# Altium footprint library u1.PcbLib: 1 footprints
Each footprint in its own frame and in the unit in brackets; x right, y up, seen from the top. Pads: shape width x height; smd on the part's side, far side on the other; paste and mask are expansions set on the pad; w line width, h text height; cw(c..) or ccw(c..) is an arc to the next point about the centre after c.
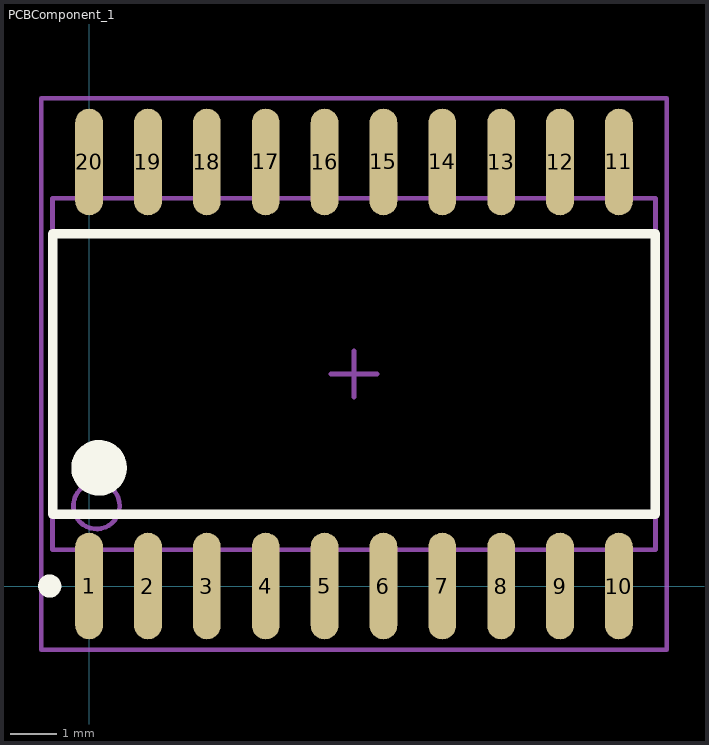
[diagram p0: the footprint, top view; thin cyan lines are the x and y axes]

## PCBComponent_1 [mm]
pads (20):
  oval 0.6x2.3 smd: 1(0,0) 2(1.27,0) 3(2.54,0) 4(3.81,0) 5(5.08,0) 6(6.35,0) 7(7.62,0) 8(8.89,0) 9(10.16,0) 10(11.43,0) 11(11.43,9.15) 12(10.16,9.15) 13(8.89,9.15) 14(7.62,9.15) 15(6.35,9.15) 16(5.08,9.15) 17(3.81,9.15) 18(2.54,9.15) 19(1.27,9.15) 20(0,9.15)
Top Overlay:
  circle w0.6: c0.215,2.55 r0.3
  circle w0.25: c-0.85,0 r0.125
  lines w0.2: -0.785,1.55 -0.785,7.6 12.215,7.6 12.215,1.55 -0.785,1.55
Mechanical 13:
  circle w0.1: c0.16,1.73 r0.5
  lines w0.1: -0.79,0.78 -0.79,8.37 12.22,8.37 12.22,0.78 -0.79,0.78
Mechanical 15:
  lines w0.1: 5.215,4.575 6.215,4.575 ; 5.715,4.075 5.715,5.075 ; -1.035,-1.375 -1.035,10.525 12.465,10.525 12.465,-1.375 -1.035,-1.375
3D body: height 2.64, standoff 0.33, extent -0.79,0.78 12.22,8.37